# Altium footprint library LEDRD254W55D595H900.PcbLib: 1 footprints
Each footprint in its own frame and in the unit in brackets; x right, y up, seen from the top. Pads: shape width x height; smd on the part's side, far side on the other; paste and mask are expansions set on the pad; w line width, h text height; cw(c..) or ccw(c..) is an arc to the next point about the centre after c.
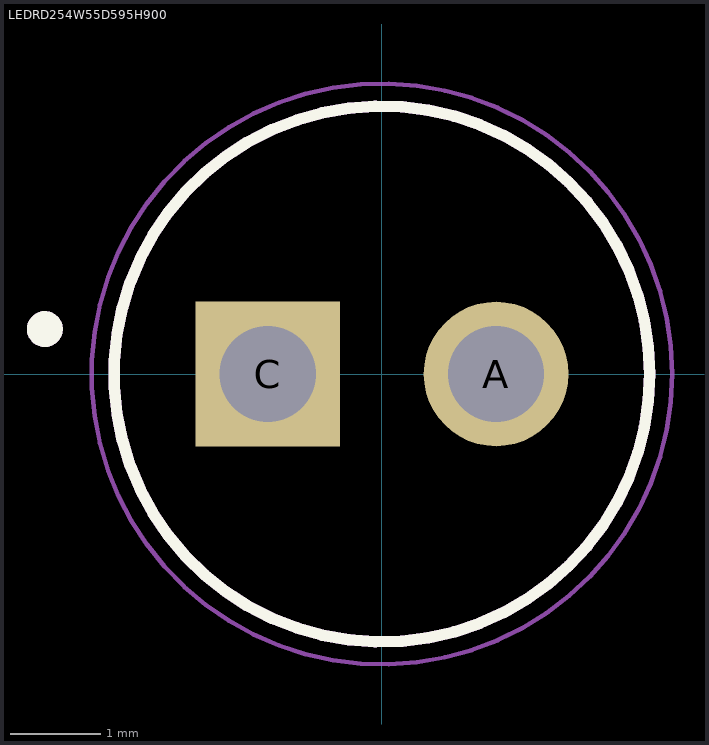
[diagram p0: the footprint, top view; thin cyan lines are the x and y axes]

## LEDRD254W55D595H900 [mm]
pads (2):
  round 1.61 hole 1.07: A(1.27,0)
  rect 1.61x1.61 hole 1.07: C(-1.27,0)
Top Overlay:
  circle w0.2: c-3.75,0.5 r0.1
  circle w0.127: c0,0 r2.98
Mechanical 13:
  circle w0.127: c0,0 r2.98
  circle w0.2: c-3.75,0.5 r0.1
Mechanical 15:
  circle w0.05: c0,0 r3.23
3D body "IR Transmitter LED.STEP": height 9.01, standoff -27.04, extent -2.884,-2.9 2.5,2.9